# Altium footprint library Components - 25.08.25 - 11.48.PcbLib: 1 footprints
Each footprint in its own frame and in the unit in brackets; x right, y up, seen from the top. Pads: shape width x height; smd on the part's side, far side on the other; paste and mask are expansions set on the pad; w line width, h text height; cw(c..) or ccw(c..) is an arc to the next point about the centre after c.
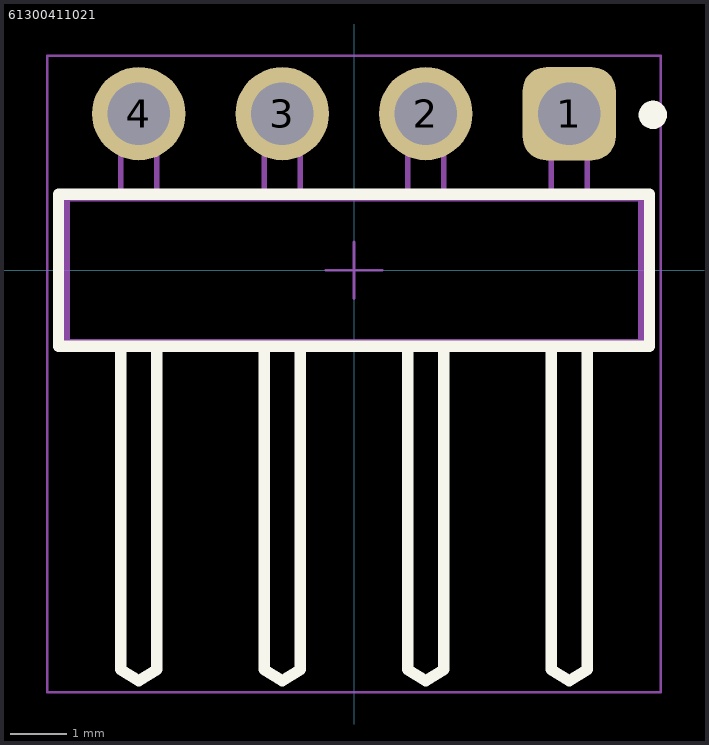
[diagram p0: the footprint, top view; thin cyan lines are the x and y axes]

## 61300411021 [mm] "Pin Header, pitch 2.54 mm, THT, Angled, single row, 4p"
height 2.54
pads (4):
  rrect50% 1.65x1.65 hole 1.1: 1(3.81,2.77)
  round 1.65 hole 1.1: 2(1.27,2.77) 3(-1.27,2.77) 4(-3.81,2.77)
Top Overlay:
  circle w0.25: c5.29,2.75 r0.125
  lines w0.2: -4.13,-1.345 -4.13,-7.07 -3.81,-7.27 -3.49,-7.07 -3.49,-1.345 ; -1.59,-1.345 -1.59,-7.07 -1.27,-7.27 -0.95,-7.07 -0.95,-1.345 ; 0.95,-1.345 0.95,-7.07 1.27,-7.27 1.59,-7.07 1.59,-1.345 ; 3.49,-1.345 3.49,-7.07 3.81,-7.27 4.13,-7.07 4.13,-1.345 ; -5.23,-1.345 5.23,-1.345 5.23,1.345 -5.23,1.345 -5.23,-1.345
Top Designator:
  text ".Designator" at -7.498,-0.5 h1.5
Top Component Outline:
  lines w0.1: -4.13,-1.27 -4.13,-7.07 -3.81,-7.27 -3.49,-7.07 -3.49,-1.27 ; -4.13,1.27 -4.13,3.09 -3.49,3.09 -3.49,1.27 ; -1.59,-1.27 -1.59,-7.07 -1.27,-7.27 -0.95,-7.07 -0.95,-1.27 ; -1.59,1.27 -1.59,3.09 -0.95,3.09 -0.95,1.27 ; 0.95,-1.27 0.95,-7.07 1.27,-7.27 1.59,-7.07 1.59,-1.27 ; 0.95,1.27 0.95,3.09 1.59,3.09 1.59,1.27 ; 3.49,-1.27 3.49,-7.07 3.81,-7.27 4.13,-7.07 4.13,-1.27 ; 3.49,1.27 3.49,3.09 4.13,3.09 4.13,1.27 ; -5.08,-1.27 -5.08,1.27 5.08,1.27 5.08,-1.27 -5.08,-1.27
Top Courtyard:
  lines w0.05: -5.43,-7.47 5.43,-7.47 5.43,3.795 -5.43,3.795 -5.43,-7.47
Top Component Center:
  lines w0.05: -0.5,0 0.5,0 ; 0,-0.5 0,0.5
3D body "61300411021.stp": height 2.58, standoff -2.96, extent -5.08,-7.27 5.08,3.09